# Altium footprint library ES8311.PcbLib: 1 footprints
Each footprint in its own frame and in the unit in brackets; x right, y up, seen from the top. Pads: shape width x height; smd on the part's side, far side on the other; paste and mask are expansions set on the pad; w line width, h text height; cw(c..) or ccw(c..) is an arc to the next point about the centre after c.
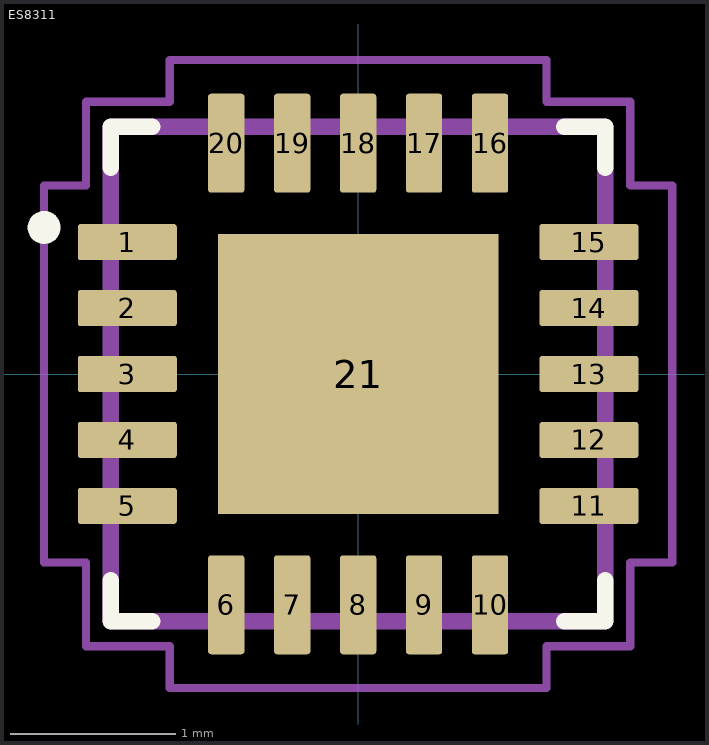
[diagram p0: the footprint, top view; thin cyan lines are the x and y axes]

## ES8311 [mm]
pads (21):
  rrect15% 0.6x0.22 smd mask+0.102: 1(-1.4,0.8) 2(-1.4,0.4) 3(-1.4,0) 4(-1.4,-0.4) 5(-1.4,-0.8) 11(1.4,-0.8) 12(1.4,-0.4) 13(1.4,0) 14(1.4,0.4) 15(1.4,0.8)
  rrect15% 0.22x0.6 smd mask+0.102: 6(-0.8,-1.4) 7(-0.4,-1.4) 8(0,-1.4) 9(0.4,-1.4) 10(0.8,-1.4) 16(0.8,1.4) 17(0.4,1.4) 18(0,1.4) 19(-0.4,1.4) 20(-0.8,1.4)
  rect 1.7x1.7 smd mask+0.102: 21(0,0)
Top Overlay:
  circle w0.1: c-1.905,0.889 r0.05
  lines w0.1: -1.5,-1.25 -1.5,-1.5 -1.25,-1.5 ; -1.5,1.25 -1.5,1.5 -1.25,1.5 ; 1.25,-1.5 1.5,-1.5 1.5,-1.25 ; 1.25,1.5 1.5,1.5 1.5,1.25
Top 3D Body:
  lines w0.1: -1.5,-1.5 -1.5,1.5 1.5,1.5 1.5,-1.5 -1.5,-1.5
Top Courtyard:
  lines w0.05: -1.905,-1.143 -1.905,1.143 -1.651,1.143 -1.651,1.651 -1.143,1.651 -1.143,1.905 1.143,1.905 1.143,1.651 1.651,1.651 1.651,1.143 1.905,1.143 1.905,-1.143 1.651,-1.143 1.651,-1.651 1.143,-1.651 1.143,-1.905 -1.143,-1.905 -1.143,-1.651 -1.651,-1.651 -1.651,-1.143 -1.905,-1.143
3D body "ES8311.STEP": height 0.87, standoff 0, extent -1.501,-1.501 1.501,1.501